# EAGLE library part LM5000 (library texas)
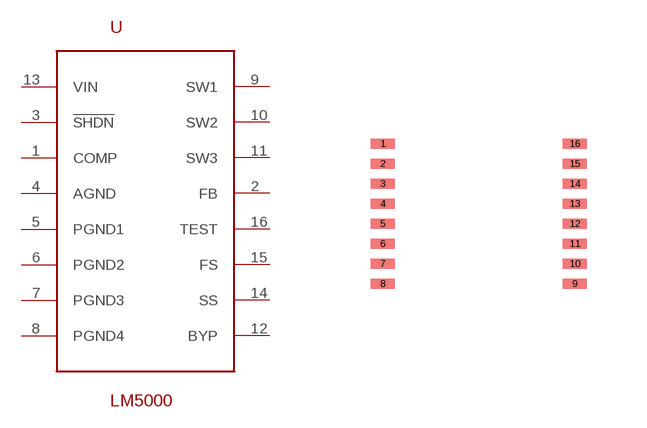
[diagram p129: symbol with the pads of LM5000; footprint LM5000]

Designator prefix -

## LM5000  [LM5000]
1  COMP
2  FB
3  !SHDN
4  AGND
5  PGND1
6  PGND2
7  PGND3
8  PGND4
9  SW1
10  SW2
11  SW3
12  BYP
13  VIN
14  SS
15  FS
16  TEST

## Footprint LM5000 (pad centres in mm)
smd 0.6 x 0.25: 1 -2.4,1.75; 2 -2.4,1.25; 3 -2.4,0.75; 4 -2.4,0.25; 5 -2.4,-0.25; 6 -2.4,-0.75; 7 -2.4,-1.25; 8 -2.4,-1.75; 9 2.4,-1.75; 10 2.4,-1.25; 11 2.4,-0.75; 12 2.4,-0.25; 13 2.4,0.25; 14 2.4,0.75; 15 2.4,1.25; 16 2.4,1.75